# Altium schematic symbol library SCH - CONNECTORS - 12 PIN.SCHLIB: 2 symbols
Pins are listed as number, name and electrical type; pins without a type are passive.

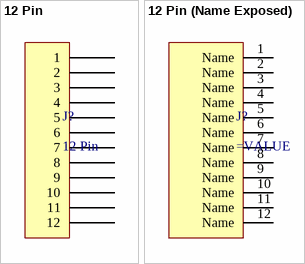
[diagram p0: symbols 12 Pin to 12 Pin (Name Exposed)]

## 12 Pin
designator J?
pins: 1, 2, 3, 4, 5, 6, 7, 8, 9, 10, 11, 12

## 12 Pin (Name Exposed)
designator J?
pins: 1 Name, 2 Name, 3 Name, 4 Name, 5 Name, 6 Name, 7 Name, 8 Name, 9 Name, 10 Name, 11 Name, 12 Name